# Altium footprint library Azurspace.PcbLib: 1 footprints
Each footprint in its own frame and in the unit in brackets; x right, y up, seen from the top. Pads: shape width x height; smd on the part's side, far side on the other; paste and mask are expansions set on the pad; w line width, h text height; cw(c..) or ccw(c..) is an arc to the next point about the centre after c.
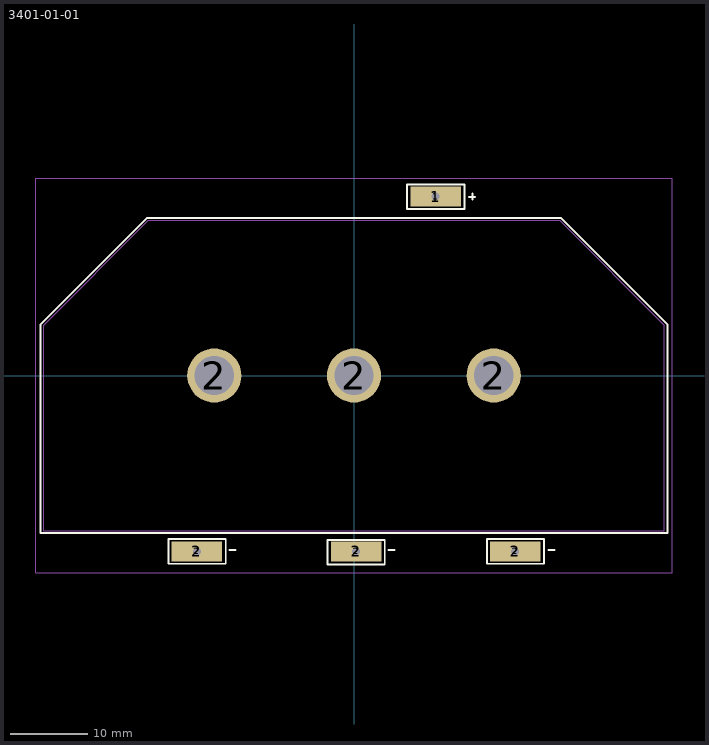
[diagram p0: the footprint, top view; thin cyan lines are the x and y axes]

## 3401-01-01 [mm] "Azurspace GaAs SCA 3G30A"
height 0.405
pads (11):
  rect 6.5x2.54 smd: 1(10.515,23.055) 2(-20.235,-22.665) 2(0.265,-22.665) 2(20.765,-22.665)
  round 1.524 hole 1.016: 1(10.515,23.055) 2(-20.235,-22.665) 2(0.265,-22.665) 2(20.765,-22.665)
  round 6.985 hole 5.08: 2(-18,0) 2(0,0) 2(18,0)
Top Overlay:
  lines w0.254: -16.053,-22.504 -15.291,-22.504 ; 4.47,-22.504 5.232,-22.504 ; 14.846,23.03 15.608,23.03 ; 15.24,22.674 15.24,23.436 ; 25.044,-22.504 25.806,-22.504 ; -40.386,-20.32 -40.132,-20.32 40.386,-20.32 40.386,6.604 26.67,20.32 -26.67,20.32 -40.386,6.604 -40.386,-20.32 ; -23.892,-24.257 -16.526,-24.257 -16.526,-21.082 -23.892,-21.082 -23.892,-23.876 -23.892,-24.257 ; -3.403,-24.35 3.963,-24.35 3.963,-21.175 -3.403,-21.175 -3.403,-23.969 -3.403,-24.35 ; 6.858,21.463 6.858,21.844 6.858,24.638 14.224,24.638 14.224,21.463 6.858,21.463 ; 17.108,-24.257 24.474,-24.257 24.474,-21.082 17.108,-21.082 17.108,-23.876 17.108,-24.257
Bottom Overlay:
  lines w0.254: -16.053,-22.504 -15.291,-22.504 ; 4.521,-22.504 5.283,-22.504 ; 14.846,23.03 15.608,23.03 ; 15.24,22.674 15.24,23.436 ; 25.044,-22.504 25.806,-22.504 ; -40.386,-20.32 -40.132,-20.32 40.386,-20.32 40.386,6.604 26.67,20.32 -26.67,20.32 -40.386,6.604 -40.386,-20.32 ; -23.892,-24.257 -16.526,-24.257 -16.526,-21.082 -23.892,-21.082 -23.892,-23.876 -23.892,-24.257 ; -3.392,-24.257 3.974,-24.257 3.974,-21.082 -3.392,-21.082 -3.392,-23.876 -3.392,-24.257 ; 6.858,21.463 6.858,21.844 6.858,24.638 14.224,24.638 14.224,21.463 6.858,21.463 ; 17.108,-24.257 24.474,-24.257 24.474,-21.082 17.108,-21.082 17.108,-23.876 17.108,-24.257
Top Assembly:
  lines w0.1: -40,-20 40,-20 40,6.5 26.5,20 -26.5,20 -40,6.5 -40,-20
Top Courtyard:
  lines w0.05: -41,-25.4 41,-25.4 41,25.4 35.875,25.4 32.148,25.4 29.352,25.4 25.625,25.4 20.5,25.4 16.849,25.4 -16.849,25.4 -20.5,25.4 -41,25.4 -41,-25.4
  lines w0.1: -0.5,0 0.5,0 ; 0,-0.5 0,0.5
3D body: height 0.3, standoff 0, extent -40,-20 40,20